# Altium footprint library MOLEX_1724480002.PcbLib: 1 footprints
Each footprint in its own frame and in the unit in brackets; x right, y up, seen from the top. Pads: shape width x height; smd on the part's side, far side on the other; paste and mask are expansions set on the pad; w line width, h text height; cw(c..) or ccw(c..) is an arc to the next point about the centre after c.
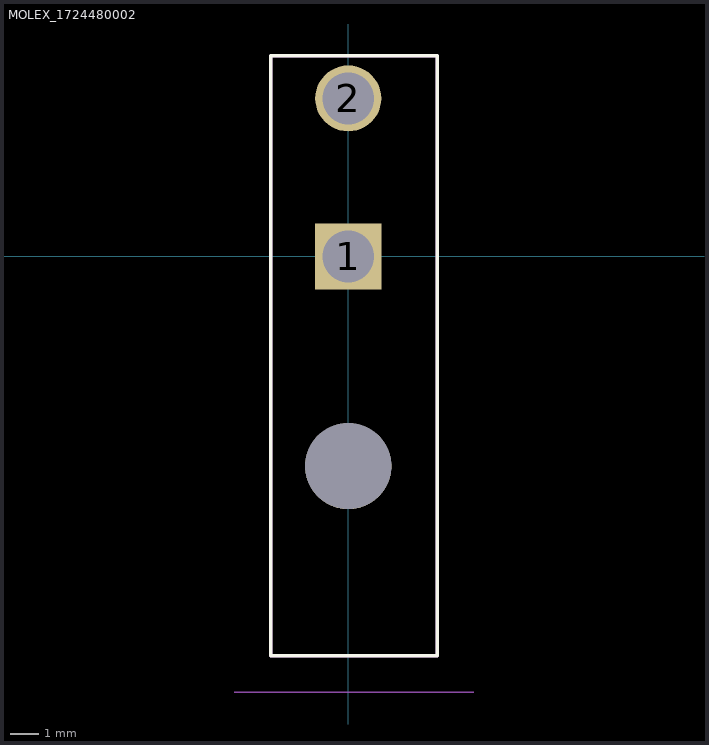
[diagram p0: the footprint, top view; thin cyan lines are the x and y axes]

## MOLEX_1724480002 [mm]
height 11.4
pads (3):
  rect 2.3x2.3 hole 1.8 mask+0.076: 1(0,0)
  round 2.3 hole 1.8 mask+0.076: 2(0,5.5)
  round 3 hole 3 unplated mask+0.076: ""(0,-7.3)
Top Overlay:
  lines w0.127: -2.7,-13.9 3.1,-13.9 3.1,6.985 -2.7,6.985 -2.7,-13.9
Mechanical 13:
  lines w0.127: -2.7,-13.9 3.1,-13.9 3.1,6.985 -2.7,6.985 -2.7,-13.9
Mechanical 15:
  lines w0.05: -3.97,-15.17 4.37,-15.17
3D body "step_temp.STEP": height 11.4, standoff -3.6, extent -2.752,-13.905 3.048,6.031